# Altium footprint library OnlabFootprints.PcbLib: 20 footprints (part 1 of 2)
Each footprint in its own frame and in the unit in brackets; x right, y up, seen from the top. Pads: shape width x height; smd on the part's side, far side on the other; paste and mask are expansions set on the pad; w line width, h text height; cw(c..) or ccw(c..) is an arc to the next point about the centre after c.
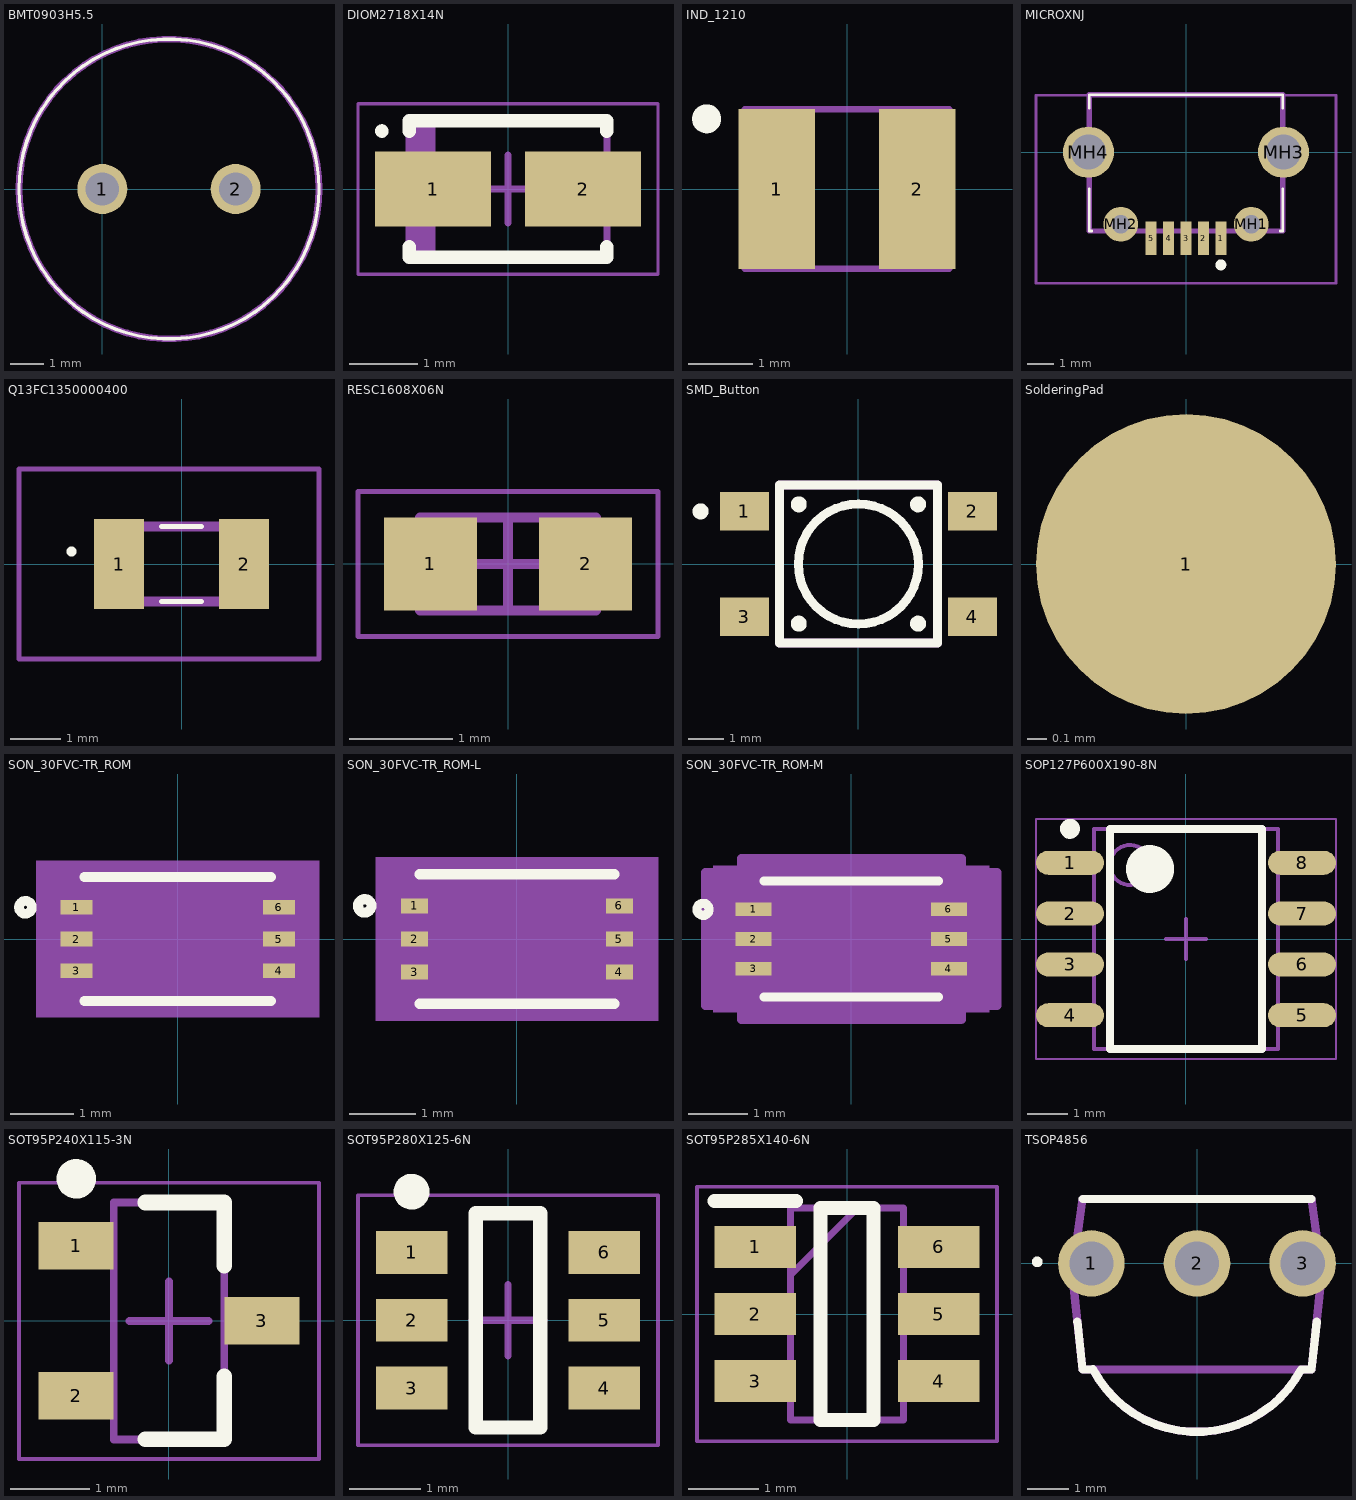
[diagram p0: the footprints below, top view; thin cyan lines are the x and y axes]

## BMT0903H5.5 [mm]
pads (2):
  round 1.5 hole 1: 1(0,0) 2(4,0)
Top Overlay:
  lines w0.1: -2.5,0 ccw(c2,0) 6.5,0 ccw(c2,0) -2.5,0
Mechanical 13:
  lines w0.2: -2.5,0 ccw(c2,0) 6.5,0 ccw(c2,0) -2.5,0

## DIOM2718X14N [mm] "Molded Diode, 2-Leads, Body 2,70x1,80mm, IPC Medium Density"
height 1.35
pads (2):
  rect 1.7x1.1 smd: 1(-1.1,0) 2(1.1,0)
Top Overlay:
  circle w0.1: c-1.85,0.85 r0.05
  lines w0.2: -1.45,-0.85 -1.45,-1 1.45,-1 1.45,-0.85 ; -1.45,0.85 -1.45,1 1.45,1 1.45,0.85
Mechanical 13:
  rectangle: -1.45,-1 -1.06,1
  lines w0.1: -1.45,-1 -1.45,1 1.45,1 1.45,-1 -1.45,-1
Mechanical 15:
  lines w0.05: -2.2,-1.25 -2.2,1.25 2.2,1.25 2.2,-1.25 -2.2,-1.25
  lines w0.1: -0.5,0 0.5,0 ; 0,-0.5 0,0.5
3D body "DIOM2718X14N.step": height 1.35, standoff 0, extent -1.67,-1 1.67,1

## IND_1210 [mm]
pads (2):
  rect 1.2x2.5 smd: 1(-1.1,0) 2(1.1,0)
Top Overlay:
  circle w0.254: c-2.2,1.1 r0.1
Mechanical 13:
  lines w0.1: -1.6,-1.25 1.6,-1.25 1.6,1.25 -1.6,1.25 -1.6,-1.25

## MICROXNJ [mm]
pads (9):
  rect 0.4x1.25 smd: 1(1.3,-3.2) 2(0.65,-3.2) 3(0,-3.2) 4(-0.65,-3.2) 5(-1.3,-3.2)
  round 1.3 hole 0.7: MH1(2.425,-2.68) MH2(-2.425,-2.68)
  round 1.9 hole 1.3: MH3(3.625,0) MH4(-3.625,0)
Top Overlay:
  lines w0.1: -3.6,-1.37 -3.6,-2.93 -3.5,-2.93 ; -3.6,1.63 -3.6,2.13 3.6,2.13 3.6,1.63 ; 3.5,-2.93 3.6,-2.93 3.6,-1.37
  lines w0.2: 1.197,-4.191 ccw(c1.297,-4.191) 1.397,-4.191 ccw(c1.297,-4.191) 1.197,-4.191
Mechanical 13:
  lines w0.2: -3.6,-2.93 3.6,-2.93 3.6,2.13 -3.6,2.13 -3.6,-2.93
Mechanical 15:
  lines w0.1: -5.575,-4.87 5.575,-4.87 ; -5.575,-4.87 -5.575,2.12 ; -5.575,-4.87 5.575,-4.87 ; -5.575,-4.87 -5.575,2.12 ; -5.575,2.12 5.575,2.12 ; -5.575,2.12 5.575,2.12 ; 5.575,-4.87 5.575,2.12 ; 5.575,-4.87 5.575,2.12
3D body "MICROXNJ.stp": height 2.55, standoff -1.07, extent -3.95,-3.18 3.95,2.72

## Q13FC1350000400 [mm]
pads (2):
  rect 1x1.8 smd: 1(-1.25,0) 2(1.25,0)
Top Overlay:
  lines w0.1: -0.4,-0.75 0.4,-0.75 ; -0.4,0.75 0.4,0.75 ; -2.2,0.2 cw(c-2.2,0.25) -2.2,0.3 cw(c-2.2,0.25) -2.2,0.2
Mechanical 13:
  lines w0.2: -1.6,-0.75 -1.6,0.75 1.6,0.75 1.6,-0.75 -1.6,-0.75
Mechanical 15:
  lines w0.1: -3.25,-1.9 -3.25,1.9 2.75,1.9 2.75,-1.9 -3.25,-1.9

## RESC1608X06N [mm] "Chip Resistor, 2-Leads, Body 1,60x0,80mm, IPC Medium Density"
height 0.6
pads (2):
  rect 0.9x0.9 smd: 1(-0.75,0) 2(0.75,0)
Mechanical 13:
  lines w0.1: -0.85,-0.45 -0.85,0.45 0.85,0.45 0.85,-0.45 -0.85,-0.45
Mechanical 15:
  lines w0.05: -1.45,-0.7 -1.45,0.7 1.45,0.7 1.45,-0.7 -1.45,-0.7
  lines w0.1: -0.45,0 0.45,0 ; 0,-0.45 0,0.45
3D body "RESC1608X06N.step": height 0.6, standoff 0, extent -0.85,-0.45 0.85,0.45

## SMD_Button [mm]
pads (4):
  rect 1.4x1.1 smd: 1(-3.25,1.5) 2(3.25,1.5) 3(-3.25,-1.5) 4(3.25,-1.5)
Top Overlay:
  circle w0.254: c1.7,-1.7 r0.1
  circle w0.254: c1.7,1.7 r0.1
  circle w0.254: c-1.7,1.7 r0.1
  circle w0.254: c-1.7,-1.7 r0.1
  circle w0.254: c0,0 r1.712
  circle w0.254: c-4.5,1.5 r0.1
  lines w0.254: -2.25,-2.25 2.25,-2.25 2.25,2.25 -2.25,2.25 -2.25,-2.25
Mechanical 13:
  lines w0.254: -2.25,-2.25 2.25,-2.25 2.25,2.25 -2.25,2.25 -2.25,-2.25

## SolderingPad [mil]
pads (1):
  round 60 smd: 1(0,0)

## SON_30FVC-TR_ROM [mm]
pads (6):
  rect 0.503x0.229 smd paste+0 mask+0: 1(-1.598,0.5) 2(-1.598,0) 3(-1.598,-0.5) 4(1.598,-0.5) 5(1.598,0) 6(1.598,0.5)
Top Overlay:
  circle w0.152: c-2.4,0.5 r0.102
  lines w0.152: -1.473,-0.978 1.473,-0.978 ; -1.473,0.978 1.473,0.978
Mechanical 5:
  region: 2.23,-1.232 -2.23,-1.232 -2.23,1.232 2.23,1.232
Mechanical 13:
  circle w0: c-1.346,0.5 r0.076
  lines w0: -0.305,0.851 ccw(c0,0.851) 0.305,0.851
  lines w0.025: -1.346,-0.851 -1.346,0.851 1.346,0.851 1.346,-0.851 -1.346,-0.851
Mechanical 15:
  region: -1.6,-0.869 -2.103,-0.869 -2.103,0.869 -1.6,0.869 -1.6,1.105 1.6,1.105 1.6,0.869 2.103,0.869 2.103,-0.869 1.6,-0.869 1.6,-1.105 -1.6,-1.105
  lines w0.152: -2.103,-0.869 -1.6,-0.869 -1.6,-1.105 1.6,-1.105 1.6,-0.869 2.103,-0.869 2.103,0.869 1.6,0.869 1.6,1.105 -1.6,1.105 -1.6,0.869 -2.103,0.869 -2.103,-0.869
3D body "SON_30FVC-TR_ROM.step": height 0.76, standoff 0, extent -1.549,-0.851 1.549,0.851

## SON_30FVC-TR_ROM-L [mm]
pads (6):
  rect 0.403x0.229 smd paste+0 mask+0: 1(-1.548,0.5) 2(-1.548,0) 3(-1.548,-0.5) 4(1.548,-0.5) 5(1.548,0) 6(1.548,0.5)
Top Overlay:
  circle w0.152: c-2.3,0.5 r0.102
  lines w0.152: -1.473,-0.978 1.473,-0.978 ; -1.473,0.978 1.473,0.978
Mechanical 5:
  region: 2.13,-1.232 -2.13,-1.232 -2.13,1.232 2.13,1.232
Mechanical 13:
  circle w0: c-1.346,0.5 r0.076
  lines w0: -0.305,0.851 ccw(c0,0.851) 0.305,0.851
  lines w0.025: -1.346,-0.851 1.346,-0.851 1.346,0.851 -1.346,0.851 -1.346,-0.851
Mechanical 15:
  region: -1.448,-0.716 -1.851,-0.716 -1.851,0.716 -1.448,0.716 -1.448,0.953 1.448,0.953 1.448,0.716 1.851,0.716 1.851,-0.716 1.448,-0.716 1.448,-0.953 -1.448,-0.953
  lines w0.152: -1.851,-0.716 -1.851,0.716 -1.448,0.716 -1.448,0.953 1.448,0.953 1.448,0.716 1.851,0.716 1.851,-0.716 1.448,-0.716 1.448,-0.953 -1.448,-0.953 -1.448,-0.716 -1.851,-0.716
3D body "SON_30FVC-TR_ROM.step": height 0.76, standoff 0, extent -1.549,-0.851 1.549,0.851

## SON_30FVC-TR_ROM-M [mm]
pads (6):
  rect 0.603x0.229 smd paste+0 mask+0: 1(-1.648,0.5) 2(-1.648,0) 3(-1.648,-0.5) 4(1.648,-0.5) 5(1.648,0) 6(1.648,0.5)
Top Overlay:
  circle w0.152: c-2.5,0.5 r0.102
  lines w0.152: -1.473,-0.978 1.473,-0.978 ; -1.473,0.978 1.473,0.978
Mechanical 5:
  region: 2.33,-1.232 -2.33,-1.232 -2.33,1.232 2.33,1.232
Mechanical 13:
  circle w0: c-1.346,0.5 r0.076
  lines w0: -0.305,0.851 ccw(c0,0.851) 0.305,0.851
  lines w0.025: -1.346,-0.851 1.346,-0.851 1.346,0.851 -1.346,0.851 -1.346,-0.851
Mechanical 15:
  region: -1.854,-1.123 -2.457,-1.123 -2.457,1.123 -1.854,1.123 -1.854,1.359 1.854,1.359 1.854,1.123 2.457,1.123 2.457,-1.123 1.854,-1.123 1.854,-1.359 -1.854,-1.359
  lines w0.152: -2.457,-1.123 -2.457,1.123 -1.854,1.123 -1.854,1.359 1.854,1.359 1.854,1.123 2.457,1.123 2.457,-1.123 1.854,-1.123 1.854,-1.359 -1.854,-1.359 -1.854,-1.123 -2.457,-1.123
3D body "SON_30FVC-TR_ROM.step": height 0.76, standoff 0, extent -1.549,-0.851 1.549,0.851

## SOP127P600X190-8N [mm] "SOP, 8-Leads, Body 5,15x4,45mm, Pitch 1,27mm, IPC Medium Density"
height 1.9
pads (8):
  oval 1.7x0.6 smd: 1(-2.9,1.905) 2(-2.9,0.635) 3(-2.9,-0.635) 4(-2.9,-1.905) 5(2.9,-1.905) 6(2.9,-0.635) 7(2.9,0.635) 8(2.9,1.905)
Top Overlay:
  circle w0.6: c-0.9,1.75 r0.3
  circle w0.25: c-2.9,2.755 r0.125
  lines w0.2: -1.9,-2.75 1.9,-2.75 1.9,2.75 -1.9,2.75 -1.9,-2.75
Mechanical 13:
  circle w0.1: c-1.4,1.85 r0.5
  lines w0.1: -2.3,-2.75 2.3,-2.75 2.3,2.75 -2.3,2.75 -2.3,-2.75
Mechanical 15:
  lines w0.05: -3.75,-3 3.75,-3 3.75,3 -3.75,3 -3.75,-3
  lines w0.1: -0.5,0 0.5,0 ; 0,-0.5 0,0.5
3D body "SOP127P600X190-8N.step": height 1.9, standoff 0, extent -3,-2.75 3,2.75

## SOT95P240X115-3N [mm] "SOT23, 3-Leads, Body 2,90x2,40mm, Pitch 0,95mm, IPC Medium Density"
height 1.15
pads (3):
  rect 0.95x0.6 smd: 1(-1.175,0.95) 2(-1.175,-0.95) 3(1.175,0)
Top Overlay:
  circle w0.25: c-1.175,1.8 r0.125
  lines w0.2: -0.3,-1.5 0.7,-1.5 0.7,-0.7 ; -0.3,1.5 0.7,1.5 0.7,0.7
Mechanical 13:
  lines w0.1: -0.7,-1.5 -0.7,1.5 0.7,1.5 0.7,-1.5 -0.7,-1.5
Mechanical 15:
  lines w0.05: -1.9,-1.75 -1.9,1.75 1.9,1.75 1.9,-1.75 -1.9,-1.75
  lines w0.1: -0.5,0 0.5,0 ; 0,-0.5 0,0.5
3D body "SOT95P240X115-3N.step": height 1.15, standoff 0, extent -1.275,-1.5 1.275,1.5

## SOT95P280X125-6N [mm] "SOT23, 6-Leads, Body 2,92x2,80mm, Pitch 0,95mm, IPC Medium Density"
height 1.25
pads (6):
  rect 1x0.6 smd: 1(-1.35,0.95) 2(-1.35,0) 3(-1.35,-0.95) 4(1.35,-0.95) 5(1.35,0) 6(1.35,0.95)
Top Overlay:
  circle w0.25: c-1.35,1.8 r0.125
  lines w0.2: -0.45,-1.5 0.45,-1.5 0.45,1.5 -0.45,1.5 -0.45,-1.5
Mechanical 15:
  lines w0.05: -2.1,-1.75 -2.1,1.75 2.1,1.75 2.1,-1.75 -2.1,-1.75
  lines w0.1: -0.5,0 0.5,0 ; 0,-0.5 0,0.5
3D body "SOT-23-6L.step": height 1.46, standoff 0.01, extent -1.403,-1.45 1.397,1.45

## SOT95P285X140-6N [mm]
pads (6):
  rect 1.15x0.6 smd: 1(-1.3,0.95) 2(-1.3,0) 3(-1.3,-0.95) 4(1.3,-0.95) 5(1.3,0) 6(1.3,0.95)
Top Overlay:
  lines w0.2: -1.875,1.6 -0.725,1.6 ; -0.375,-1.5 -0.375,1.5 0.375,1.5 0.375,-1.5 -0.375,-1.5
Mechanical 13:
  lines w0.1: -0.8,0.55 0.15,1.5 ; -0.8,-1.5 -0.8,1.5 0.8,1.5 0.8,-1.5 -0.8,-1.5
Mechanical 15:
  lines w0.05: -2.125,-1.8 -2.125,1.8 2.125,1.8 2.125,-1.8 -2.125,-1.8
3D body "AP1603WG-7.stp": height 1.4, standoff 0, extent -1.425,-1.5 1.425,1.5

## TSOP4856 [mm]
pads (3):
  round 1.6 hole 1.06: 1(-2.54,0) 2(0,0) 3(2.54,0)
Top Overlay:
  circle w0.2: c-3.841,0.038 r0.029
  lines w0.2: -2.875,-1.4 -2.75,-2.55 -2.5,-2.55 ; -2.75,1.55 2.75,1.55 ; -2.502,-2.547 ccw(c0,-1.217) 2.499,-2.551 ; 2.5,-2.55 2.75,-2.55 2.875,-1.4
Mechanical 13:
  lines w0.2: -2.5,-2.55 ccw(c0,-1.215) 2.5,-2.55 ; -3,-0.25 -2.75,-2.55 2.75,-2.55 3,-0.25 2.75,1.55 -2.75,1.55 -3,-0.25
3D body "TSOP34838.stp": height 10.46, standoff -20.04, extent -3,-4.95 3,1.55